# Altium integrated library TI Power Management Standard Voltage Regulator.IntLib: 214 symbols (part 1 of 7)
Pins are listed as number, name and electrical type; pins without a type are passive.

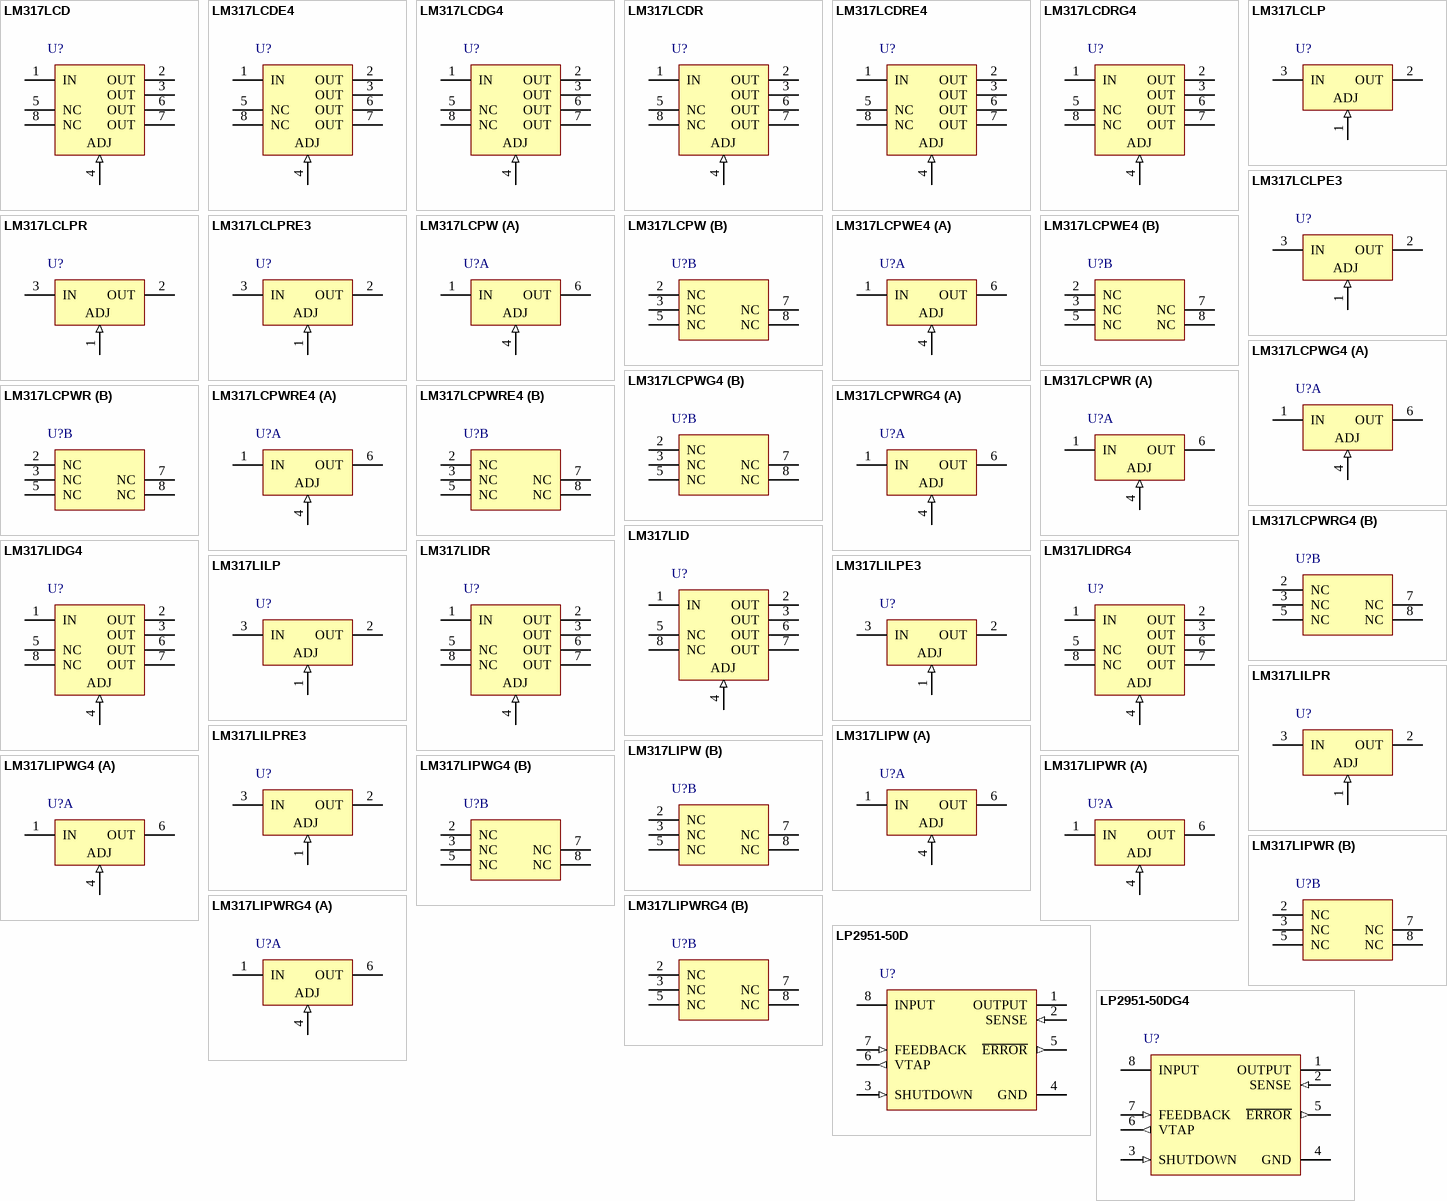
[diagram p0: symbols LM317LCD to LP2951-50DG4]

## LM317LCD
designator U?
Adjustable Regulator with 3.7 to 38 V Input and 1.2 to 32 V Output, 0 to 125 degC, 8-Pin SOIC (D), Green (RoHS & no Sb/Br); Manufacturer: Texas Instruments; PartNumber: LM317LCD; Iout(Max)(A): 0.1; Vin(Max)(V): 38; Vin(Min)(V): 3.7; Vout(Max)(V): 32; Vout(Min)(V): 1.2; DatasheetVersion: SLCS144D; PackageVersion: revM, Jun-2011; PackageReference: D8; PackageDescription: 8-Pin Plastic Small Outline Integrated Circuit, 4.9 x 3.9 mm, Pitch 1.27 mm Pitch; Supplier 1: Digi-Key; Supplier Part Number 1: 296-26092-5-ND; Supplier 2: Newark; Supplier Part Number 2: 21J8817; Supplier 3: Mouser; Supplier Part Number 3: 595-LM317LCD; Eco-Plan: Green (RoHS & no Sb/Br); Mounting Technology: Surface Mount; Code_JEDEC: MS-012AA; ComponentLink1Description: Datasheet; ComponentLink1URL: http://www.ti.com/general/docs/lit/getliterature.tsp?genericPartNumber=LM317L&fileType=pdf; ComponentLink2Description: Package Specification; ComponentLink2URL: http://www.ti.com/litv/pdf/msoi002j; ComponentLink3Description: URL Link1; ComponentLink3URL: Samples URL:http://www.ti.com/product/lm317l#samples
footprint D8_N (SOIC, 8-Leads, Body 4.9x3.9mm, Pitch 1.27mm, IPC Medium Density)
footprint D8_L (SOIC, 8-Leads, Body 4.9x3.9mm, Pitch 1.27mm, IPC High Density)
footprint D8_M (SOIC, 8-Leads, Body 4.9x3.9mm, Pitch 1.27mm, IPC Low Density)
pins: 1 IN (power), 2 OUT (power), 3 OUT (power), 4 ADJ (in), 5 NC, 6 OUT (power), 7 OUT (power), 8 NC

## LM317LCDE4
designator U?
Adjustable Regulator with 3.7 to 38 V Input and 1.2 to 32 V Output, 0 to 125 degC, 8-Pin SOIC (D), Green (RoHS & no Sb/Br); Manufacturer: Texas Instruments; PartNumber: LM317LCDE4; Iout(Max)(A): 0.1; Vin(Max)(V): 38; Vin(Min)(V): 3.7; Vout(Max)(V): 32; Vout(Min)(V): 1.2; DatasheetVersion: SLCS144D; PackageVersion: revM, Jun-2011; PackageReference: D8; PackageDescription: 8-Pin Plastic Small Outline Integrated Circuit, 4.9 x 3.9 mm, Pitch 1.27 mm Pitch; Supplier 1: Digi-Key; Supplier Part Number 1: LM317LCDE4-ND; Supplier 2: Newark; Supplier Part Number 2: 37K0304; Supplier 3: Mouser; Supplier Part Number 3: 595-LM317LCDE4; Eco-Plan: Green (RoHS & no Sb/Br); Mounting Technology: Surface Mount; Code_JEDEC: MS-012AA; ComponentLink1Description: Datasheet; ComponentLink1URL: http://www.ti.com/general/docs/lit/getliterature.tsp?genericPartNumber=LM317L&fileType=pdf; ComponentLink2Description: Package Specification; ComponentLink2URL: http://www.ti.com/litv/pdf/msoi002j; ComponentLink3Description: URL Link1; ComponentLink3URL: Samples URL:http://www.ti.com/product/lm317l#samples
footprint D8_N (SOIC, 8-Leads, Body 4.9x3.9mm, Pitch 1.27mm, IPC Medium Density)
footprint D8_L (SOIC, 8-Leads, Body 4.9x3.9mm, Pitch 1.27mm, IPC High Density)
footprint D8_M (SOIC, 8-Leads, Body 4.9x3.9mm, Pitch 1.27mm, IPC Low Density)
pins: 1 IN (power), 2 OUT (power), 3 OUT (power), 4 ADJ (in), 5 NC, 6 OUT (power), 7 OUT (power), 8 NC

## LM317LCDG4
designator U?
Adjustable Regulator with 3.7 to 38 V Input and 1.2 to 32 V Output, 0 to 125 degC, 8-Pin SOIC (D), Green (RoHS & no Sb/Br); Manufacturer: Texas Instruments; PartNumber: LM317LCDG4; Iout(Max)(A): 0.1; Vin(Max)(V): 38; Vin(Min)(V): 3.7; Vout(Max)(V): 32; Vout(Min)(V): 1.2; DatasheetVersion: SLCS144D; PackageVersion: revM, Jun-2011; PackageReference: D8; PackageDescription: 8-Pin Plastic Small Outline Integrated Circuit, 4.9 x 3.9 mm, Pitch 1.27 mm Pitch; Supplier 1: Digi-Key; Supplier Part Number 1: LM317LCDG4-ND; Supplier 2: Newark; Supplier Part Number 2: 41M3407; Supplier 3: Mouser; Supplier Part Number 3: 595-LM317LCDG4; Eco-Plan: Green (RoHS & no Sb/Br); Mounting Technology: Surface Mount; Code_JEDEC: MS-012AA; ComponentLink1Description: Datasheet; ComponentLink1URL: http://www.ti.com/general/docs/lit/getliterature.tsp?genericPartNumber=LM317L&fileType=pdf; ComponentLink2Description: Package Specification; ComponentLink2URL: http://www.ti.com/litv/pdf/msoi002j; ComponentLink3Description: URL Link1; ComponentLink3URL: Samples URL:http://www.ti.com/product/lm317l#samples
footprint D8_N (SOIC, 8-Leads, Body 4.9x3.9mm, Pitch 1.27mm, IPC Medium Density)
footprint D8_L (SOIC, 8-Leads, Body 4.9x3.9mm, Pitch 1.27mm, IPC High Density)
footprint D8_M (SOIC, 8-Leads, Body 4.9x3.9mm, Pitch 1.27mm, IPC Low Density)
pins: 1 IN (power), 2 OUT (power), 3 OUT (power), 4 ADJ (in), 5 NC, 6 OUT (power), 7 OUT (power), 8 NC

## LM317LCDR
designator U?
Adjustable Regulator with 3.7 to 38 V Input and 1.2 to 32 V Output, 0 to 125 degC, 8-Pin SOIC (D), Green (RoHS & no Sb/Br); Manufacturer: Texas Instruments; PartNumber: LM317LCDR; Iout(Max)(A): 0.1; Vin(Max)(V): 38; Vin(Min)(V): 3.7; Vout(Max)(V): 32; Vout(Min)(V): 1.2; DatasheetVersion: SLCS144D; PackageVersion: revM, Jun-2011; PackageReference: D8; PackageDescription: 8-Pin Plastic Small Outline Integrated Circuit, 4.9 x 3.9 mm, Pitch 1.27 mm Pitch; Supplier 1: Digi-Key; Supplier Part Number 1: 296-17220-2-ND; Supplier 2: Digi-Key; Supplier Part Number 2: 296-17220-1-ND; Supplier 3: Digi-Key; Supplier Part Number 3: 296-17220-6-ND; Supplier 4: Newark; Supplier Part Number 4: 21J8818; Supplier 5: Mouser; Supplier Part Number 5: 595-LM317LCDR; Eco-Plan: Green (RoHS & no Sb/Br); Mounting Technology: Surface Mount; Code_JEDEC: MS-012AA; ComponentLink1Description: Datasheet; ComponentLink1URL: http://www.ti.com/general/docs/lit/getliterature.tsp?genericPartNumber=LM317L&fileType=pdf; ComponentLink2Description: Package Specification; ComponentLink2URL: http://www.ti.com/litv/pdf/msoi002j; ComponentLink3Description: URL Link1; ComponentLink3URL: Samples URL:http://www.ti.com/product/lm317l#samples
footprint D8_N (SOIC, 8-Leads, Body 4.9x3.9mm, Pitch 1.27mm, IPC Medium Density)
footprint D8_L (SOIC, 8-Leads, Body 4.9x3.9mm, Pitch 1.27mm, IPC High Density)
footprint D8_M (SOIC, 8-Leads, Body 4.9x3.9mm, Pitch 1.27mm, IPC Low Density)
pins: 1 IN (power), 2 OUT (power), 3 OUT (power), 4 ADJ (in), 5 NC, 6 OUT (power), 7 OUT (power), 8 NC

## LM317LCDRE4
designator U?
Adjustable Regulator with 3.7 to 38 V Input and 1.2 to 32 V Output, 0 to 125 degC, 8-Pin SOIC (D), Green (RoHS & no Sb/Br); Manufacturer: Texas Instruments; PartNumber: LM317LCDRE4; Iout(Max)(A): 0.1; Vin(Max)(V): 38; Vin(Min)(V): 3.7; Vout(Max)(V): 32; Vout(Min)(V): 1.2; DatasheetVersion: SLCS144D; PackageVersion: revM, Jun-2011; PackageReference: D8; PackageDescription: 8-Pin Plastic Small Outline Integrated Circuit, 4.9 x 3.9 mm, Pitch 1.27 mm Pitch; Supplier 1: Digi-Key; Supplier Part Number 1: LM317LCDRE4-ND; Supplier 2: Newark; Supplier Part Number 2: 37K0305; Supplier 3: Mouser; Supplier Part Number 3: 595-LM317LCDRE4; Eco-Plan: Green (RoHS & no Sb/Br); Mounting Technology: Surface Mount; Code_JEDEC: MS-012AA; ComponentLink1Description: Datasheet; ComponentLink1URL: http://www.ti.com/general/docs/lit/getliterature.tsp?genericPartNumber=LM317L&fileType=pdf; ComponentLink2Description: Package Specification; ComponentLink2URL: http://www.ti.com/litv/pdf/msoi002j; ComponentLink3Description: URL Link1; ComponentLink3URL: Samples URL:http://www.ti.com/product/lm317l#samples
footprint D8_N (SOIC, 8-Leads, Body 4.9x3.9mm, Pitch 1.27mm, IPC Medium Density)
footprint D8_L (SOIC, 8-Leads, Body 4.9x3.9mm, Pitch 1.27mm, IPC High Density)
footprint D8_M (SOIC, 8-Leads, Body 4.9x3.9mm, Pitch 1.27mm, IPC Low Density)
pins: 1 IN (power), 2 OUT (power), 3 OUT (power), 4 ADJ (in), 5 NC, 6 OUT (power), 7 OUT (power), 8 NC

## LM317LCDRG4
designator U?
Adjustable Regulator with 3.7 to 38 V Input and 1.2 to 32 V Output, 0 to 125 degC, 8-Pin SOIC (D), Green (RoHS & no Sb/Br); Manufacturer: Texas Instruments; PartNumber: LM317LCDRG4; Iout(Max)(A): 0.1; Vin(Max)(V): 38; Vin(Min)(V): 3.7; Vout(Max)(V): 32; Vout(Min)(V): 1.2; DatasheetVersion: SLCS144D; PackageVersion: revM, Jun-2011; PackageReference: D8; PackageDescription: 8-Pin Plastic Small Outline Integrated Circuit, 4.9 x 3.9 mm, Pitch 1.27 mm Pitch; Supplier 1: Digi-Key; Supplier Part Number 1: LM317LCDRG4-ND; Supplier 2: Newark; Supplier Part Number 2: 41M3408; Supplier 3: Mouser; Supplier Part Number 3: 595-LM317LCDRG4; Eco-Plan: Green (RoHS & no Sb/Br); Mounting Technology: Surface Mount; Code_JEDEC: MS-012AA; ComponentLink1Description: Datasheet; ComponentLink1URL: http://www.ti.com/general/docs/lit/getliterature.tsp?genericPartNumber=LM317L&fileType=pdf; ComponentLink2Description: Package Specification; ComponentLink2URL: http://www.ti.com/litv/pdf/msoi002j; ComponentLink3Description: URL Link1; ComponentLink3URL: Samples URL:http://www.ti.com/product/lm317l#samples
footprint D8_N (SOIC, 8-Leads, Body 4.9x3.9mm, Pitch 1.27mm, IPC Medium Density)
footprint D8_L (SOIC, 8-Leads, Body 4.9x3.9mm, Pitch 1.27mm, IPC High Density)
footprint D8_M (SOIC, 8-Leads, Body 4.9x3.9mm, Pitch 1.27mm, IPC Low Density)
pins: 1 IN (power), 2 OUT (power), 3 OUT (power), 4 ADJ (in), 5 NC, 6 OUT (power), 7 OUT (power), 8 NC

## LM317LCLP
designator U?
Adjustable Regulator with 3.7 to 38 V Input and 1.2 to 32 V Output, 0 to 125 degC, 3-Pin TO-92 (LP), Pb-Free (RoHS); Manufacturer: Texas Instruments; PartNumber: LM317LCLP; Iout(Max)(A): 0.1; Vin(Max)(V): 38; Vin(Min)(V): 3.7; Vout(Max)(V): 32; Vout(Min)(V): 1.2; DatasheetVersion: SLCS144D; PackageVersion: revC, Oct-2001; PackageReference: LP3; PackageDescription: Plastic Cylindrical Package, Formed Lead Option (TO-92); Supplier 1: Digi-Key; Supplier Part Number 1: 296-33312-5-ND; Supplier 2: Newark; Supplier Part Number 2: 21J8819; Supplier 3: Mouser; Supplier Part Number 3: 595-LM317LCLP; Eco-Plan: Pb-Free (RoHS); Mounting Technology: Through Hole; Code_JEDEC: TO-226-AA; ComponentLink1Description: Datasheet; ComponentLink1URL: http://www.ti.com/general/docs/lit/getliterature.tsp?genericPartNumber=LM317L&fileType=pdf; ComponentLink2Description: Package Specification; ComponentLink2URL: http://www.ti.com/litv/pdf/msot002a; ComponentLink3Description: URL Link1; ComponentLink3URL: Samples URL:http://www.ti.com/product/lm317l#samples
footprint LP3 (TO, Flat Index; 3 In-Line, Formed Axial Leads; Body Dia. 4.8mm; Leads 0.56 x 0.41 mm (max))
pins: 1 ADJ (in), 2 OUT (power), 3 IN (power)

## LM317LCLPE3
designator U?
Adjustable Regulator with 3.7 to 38 V Input and 1.2 to 32 V Output, 0 to 125 degC, 3-Pin TO-92 (LP), Pb-Free (RoHS); Manufacturer: Texas Instruments; PartNumber: LM317LCLPE3; Iout(Max)(A): 0.1; Vin(Max)(V): 38; Vin(Min)(V): 3.7; Vout(Max)(V): 32; Vout(Min)(V): 1.2; DatasheetVersion: SLCS144D; PackageVersion: revC, Oct-2001; PackageReference: LP3; PackageDescription: Plastic Cylindrical Package, Formed Lead Option (TO-92); Supplier 1: Digi-Key; Supplier Part Number 1: LM317LCLPE3-ND; Supplier 2: Mouser; Supplier Part Number 2: 595-LM317LCLPE3; Eco-Plan: Pb-Free (RoHS); Mounting Technology: Through Hole; Code_JEDEC: TO-226-AA; ComponentLink1Description: Datasheet; ComponentLink1URL: http://www.ti.com/general/docs/lit/getliterature.tsp?genericPartNumber=LM317L&fileType=pdf; ComponentLink2Description: Package Specification; ComponentLink2URL: http://www.ti.com/litv/pdf/msot002a; ComponentLink3Description: URL Link1; ComponentLink3URL: Samples URL:http://www.ti.com/product/lm317l#samples
footprint LP3 (TO, Flat Index; 3 In-Line, Formed Axial Leads; Body Dia. 4.8mm; Leads 0.56 x 0.41 mm (max))
pins: 1 ADJ (in), 2 OUT (power), 3 IN (power)

## LM317LCLPR
designator U?
Adjustable Regulator with 3.7 to 38 V Input and 1.2 to 32 V Output, 0 to 125 degC, 3-Pin TO-92 (LP), Pb-Free (RoHS); Manufacturer: Texas Instruments; PartNumber: LM317LCLPR; Iout(Max)(A): 0.1; Vin(Max)(V): 38; Vin(Min)(V): 3.7; Vout(Max)(V): 32; Vout(Min)(V): 1.2; DatasheetVersion: SLCS144D; PackageVersion: revC, Oct-2001; PackageReference: LP3; PackageDescription: Plastic Cylindrical Package, Formed Lead Option (TO-92); Supplier 1: Digi-Key; Supplier Part Number 1: 296-17221-2-ND; Supplier 2: Digi-Key; Supplier Part Number 2: 296-17221-1-ND; Supplier 3: Digi-Key; Supplier Part Number 3: 296-17221-6-ND; Supplier 4: Newark; Supplier Part Number 4: 21J8820; Supplier 5: Mouser; Supplier Part Number 5: 595-LM317LCLPR; Eco-Plan: Pb-Free (RoHS); Mounting Technology: Through Hole; Code_JEDEC: TO-226-AA; ComponentLink1Description: Datasheet; ComponentLink1URL: http://www.ti.com/general/docs/lit/getliterature.tsp?genericPartNumber=LM317L&fileType=pdf; ComponentLink2Description: Package Specification; ComponentLink2URL: http://www.ti.com/litv/pdf/msot002a; ComponentLink3Description: URL Link1; ComponentLink3URL: Samples URL:http://www.ti.com/product/lm317l#samples
footprint LP3 (TO, Flat Index; 3 In-Line, Formed Axial Leads; Body Dia. 4.8mm; Leads 0.56 x 0.41 mm (max))
pins: 1 ADJ (in), 2 OUT (power), 3 IN (power)

## LM317LCLPRE3
designator U?
Adjustable Regulator with 3.7 to 38 V Input and 1.2 to 32 V Output, 0 to 125 degC, 3-Pin TO-92 (LP), Pb-Free (RoHS); Manufacturer: Texas Instruments; PartNumber: LM317LCLPRE3; Iout(Max)(A): 0.1; SubFamily: Single Channel LDO; Vin(Max)(V): 38; Vin(Min)(V): 3.7; Vout(Max)(V): 32; Vout(Min)(V): 1.2; DatasheetVersion: SLCS144D; PackageVersion: revC, Oct-2001; PackageReference: LP3; PackageDescription: Plastic Cylindrical Package, Formed Lead Option (TO-92); Supplier 1: Digi-Key; Supplier Part Number 1: LM317LCLPRE3-ND; Supplier 2: Mouser; Supplier Part Number 2: 595-LM317LCLPRE3; Eco-Plan: Pb-Free (RoHS); Mounting Technology: Through Hole; Code_JEDEC: TO-226-AA; ComponentLink1Description: Datasheet; ComponentLink1URL: http://www.ti.com/general/docs/lit/getliterature.tsp?genericPartNumber=LM317L&fileType=pdf; ComponentLink2Description: Package Specification; ComponentLink2URL: http://www.ti.com/litv/pdf/msot002a; ComponentLink3Description: URL Link1; ComponentLink3URL: Samples URL:http://www.ti.com/product/lm317l#samples
footprint LP3 (TO, Flat Index; 3 In-Line, Formed Axial Leads; Body Dia. 4.8mm; Leads 0.56 x 0.41 mm (max))
pins: 1 ADJ (in), 2 OUT (power), 3 IN (power)

## LM317LCPW
designator U?
Adjustable Regulator with 3.7 to 38 V Input and 1.2 to 32 V Output, 0 to 125 degC, 8-Pin TSSOP (PW), Green (RoHS & no Sb/Br); Manufacturer: Texas Instruments; PartNumber: LM317LCPW; Iout(Max)(A): 0.1; Vin(Max)(V): 38; Vin(Min)(V): 3.7; Vout(Max)(V): 32; Vout(Min)(V): 1.2; DatasheetVersion: SLCS144D; PackageVersion: revG, Feb-2011; PackageReference: PW8; PackageDescription: 8-Pin Plastic Thin Small Outline Package 3 x 4.4 mm Body ,0.65 mm Pitch; Supplier 1: Digi-Key; Supplier Part Number 1: 296-33313-5-ND; Supplier 2: Newark; Supplier Part Number 2: 21J8821; Supplier 3: Mouser; Supplier Part Number 3: 595-LM317LCPW; Eco-Plan: Green (RoHS & no Sb/Br); Mounting Technology: Surface Mount; Code_JEDEC: MO-153; ComponentLink1Description: Datasheet; ComponentLink1URL: http://www.ti.com/general/docs/lit/getliterature.tsp?genericPartNumber=LM317L&fileType=pdf; ComponentLink2Description: Package Specification; ComponentLink2URL: http://www.ti.com/litv/pdf/mtss001d; ComponentLink3Description: URL Link1; ComponentLink3URL: Samples URL:http://www.ti.com/product/lm317l#samples
footprint PW8_N (TSOP, 8-Leads, Body 3x4.4mm, Pitch 0.65mm, IPC Medium Density)
footprint PW8_L (TSOP, 8-Leads, Body 3x4.4mm, Pitch 0.65mm, IPC High Density)
footprint PW8_M (TSOP, 8-Leads, Body 3x4.4mm, Pitch 0.65mm, IPC Low Density)
part A pins: 1 IN (power), 4 ADJ (in), 6 OUT (power)
part B pins: 2 NC, 3 NC, 5 NC, 7 NC, 8 NC

## LM317LCPWE4
designator U?
Adjustable Regulator with 3.7 to 38 V Input and 1.2 to 32 V Output, 0 to 125 degC, 8-Pin TSSOP (PW), Green (RoHS & no Sb/Br); Manufacturer: Texas Instruments; PartNumber: LM317LCPWE4; Iout(Max)(A): 0.1; Vin(Max)(V): 38; Vin(Min)(V): 3.7; Vout(Max)(V): 32; Vout(Min)(V): 1.2; DatasheetVersion: SLCS144D; PackageVersion: revG, Feb-2011; PackageReference: PW8; PackageDescription: 8-Pin Plastic Thin Small Outline Package 3 x 4.4 mm Body ,0.65 mm Pitch; Supplier 1: Digi-Key; Supplier Part Number 1: LM317LCPWE4-ND; Supplier 2: Newark; Supplier Part Number 2: 33K5250; Supplier 3: Mouser; Supplier Part Number 3: 595-LM317LCPWE4; Eco-Plan: Green (RoHS & no Sb/Br); Mounting Technology: Surface Mount; Code_JEDEC: MO-153; ComponentLink1Description: Datasheet; ComponentLink1URL: http://www.ti.com/general/docs/lit/getliterature.tsp?genericPartNumber=LM317L&fileType=pdf; ComponentLink2Description: Package Specification; ComponentLink2URL: http://www.ti.com/litv/pdf/mtss001d; ComponentLink3Description: URL Link1; ComponentLink3URL: Samples URL:http://www.ti.com/product/lm317l#samples
footprint PW8_N (TSOP, 8-Leads, Body 3x4.4mm, Pitch 0.65mm, IPC Medium Density)
footprint PW8_L (TSOP, 8-Leads, Body 3x4.4mm, Pitch 0.65mm, IPC High Density)
footprint PW8_M (TSOP, 8-Leads, Body 3x4.4mm, Pitch 0.65mm, IPC Low Density)
part A pins: 1 IN (power), 4 ADJ (in), 6 OUT (power)
part B pins: 2 NC, 3 NC, 5 NC, 7 NC, 8 NC

## LM317LCPWG4
designator U?
Adjustable Regulator with 3.7 to 38 V Input and 1.2 to 32 V Output, 0 to 125 degC, 8-Pin TSSOP (PW), Green (RoHS & no Sb/Br); Manufacturer: Texas Instruments; PartNumber: LM317LCPWG4; Iout(Max)(A): 0.1; Vin(Max)(V): 38; Vin(Min)(V): 3.7; Vout(Max)(V): 32; Vout(Min)(V): 1.2; DatasheetVersion: SLCS144D; PackageVersion: revG, Feb-2011; PackageReference: PW8; PackageDescription: 8-Pin Plastic Thin Small Outline Package 3 x 4.4 mm Body ,0.65 mm Pitch; Supplier 1: Digi-Key; Supplier Part Number 1: LM317LCPWG4-ND; Supplier 2: Newark; Supplier Part Number 2: 46M6563; Supplier 3: Mouser; Supplier Part Number 3: 595-LM317LCPWG4; Eco-Plan: Green (RoHS & no Sb/Br); Mounting Technology: Surface Mount; Code_JEDEC: MO-153; ComponentLink1Description: Datasheet; ComponentLink1URL: http://www.ti.com/general/docs/lit/getliterature.tsp?genericPartNumber=LM317L&fileType=pdf; ComponentLink2Description: Package Specification; ComponentLink2URL: http://www.ti.com/litv/pdf/mtss001d; ComponentLink3Description: URL Link1; ComponentLink3URL: Samples URL:http://www.ti.com/product/lm317l#samples
footprint PW8_N (TSOP, 8-Leads, Body 3x4.4mm, Pitch 0.65mm, IPC Medium Density)
footprint PW8_L (TSOP, 8-Leads, Body 3x4.4mm, Pitch 0.65mm, IPC High Density)
footprint PW8_M (TSOP, 8-Leads, Body 3x4.4mm, Pitch 0.65mm, IPC Low Density)
part A pins: 1 IN (power), 4 ADJ (in), 6 OUT (power)
part B pins: 2 NC, 3 NC, 5 NC, 7 NC, 8 NC

## LM317LCPWR
designator U?
Adjustable Regulator with 3.7 to 38 V Input and 1.2 to 32 V Output, 0 to 125 degC, 8-Pin TSSOP (PW), Green (RoHS & no Sb/Br); Manufacturer: Texas Instruments; PartNumber: LM317LCPWR; Iout(Max)(A): 0.1; Vin(Max)(V): 38; Vin(Min)(V): 3.7; Vout(Max)(V): 32; Vout(Min)(V): 1.2; DatasheetVersion: SLCS144D; PackageVersion: revG, Feb-2011; PackageReference: PW8; PackageDescription: 8-Pin Plastic Thin Small Outline Package 3 x 4.4 mm Body ,0.65 mm Pitch; Supplier 1: Digi-Key; Supplier Part Number 1: 296-17222-2-ND; Supplier 2: Digi-Key; Supplier Part Number 2: 296-17222-1-ND; Supplier 3: Digi-Key; Supplier Part Number 3: 296-17222-6-ND; Supplier 4: Newark; Supplier Part Number 4: 21J8822; Supplier 5: Mouser; Supplier Part Number 5: 595-LM317LCPWR; Eco-Plan: Green (RoHS & no Sb/Br); Mounting Technology: Surface Mount; Code_JEDEC: MO-153; ComponentLink1Description: Datasheet; ComponentLink1URL: http://www.ti.com/general/docs/lit/getliterature.tsp?genericPartNumber=LM317L&fileType=pdf; ComponentLink2Description: Package Specification; ComponentLink2URL: http://www.ti.com/litv/pdf/mtss001d; ComponentLink3Description: URL Link1; ComponentLink3URL: Samples URL:http://www.ti.com/product/lm317l#samples
footprint PW8_N (TSOP, 8-Leads, Body 3x4.4mm, Pitch 0.65mm, IPC Medium Density)
footprint PW8_L (TSOP, 8-Leads, Body 3x4.4mm, Pitch 0.65mm, IPC High Density)
footprint PW8_M (TSOP, 8-Leads, Body 3x4.4mm, Pitch 0.65mm, IPC Low Density)
part A pins: 1 IN (power), 4 ADJ (in), 6 OUT (power)
part B pins: 2 NC, 3 NC, 5 NC, 7 NC, 8 NC

## LM317LCPWRE4
designator U?
Adjustable Regulator with 3.7 to 38 V Input and 1.2 to 32 V Output, 0 to 125 degC, 8-Pin TSSOP (PW), Green (RoHS & no Sb/Br); Manufacturer: Texas Instruments; PartNumber: LM317LCPWRE4; Iout(Max)(A): 0.1; Vin(Max)(V): 38; Vin(Min)(V): 3.7; Vout(Max)(V): 32; Vout(Min)(V): 1.2; DatasheetVersion: SLCS144D; PackageVersion: revG, Feb-2011; PackageReference: PW8; PackageDescription: 8-Pin Plastic Thin Small Outline Package 3 x 4.4 mm Body ,0.65 mm Pitch; Supplier 1: Digi-Key; Supplier Part Number 1: LM317LCPWRE4-ND; Supplier 2: Newark; Supplier Part Number 2: 33K5251; Supplier 3: Mouser; Supplier Part Number 3: 595-LM317LCPWRE4; Eco-Plan: Green (RoHS & no Sb/Br); Mounting Technology: Surface Mount; Code_JEDEC: MO-153; ComponentLink1Description: Datasheet; ComponentLink1URL: http://www.ti.com/general/docs/lit/getliterature.tsp?genericPartNumber=LM317L&fileType=pdf; ComponentLink2Description: Package Specification; ComponentLink2URL: http://www.ti.com/litv/pdf/mtss001d; ComponentLink3Description: URL Link1; ComponentLink3URL: Samples URL:http://www.ti.com/product/lm317l#samples
footprint PW8_N (TSOP, 8-Leads, Body 3x4.4mm, Pitch 0.65mm, IPC Medium Density)
footprint PW8_L (TSOP, 8-Leads, Body 3x4.4mm, Pitch 0.65mm, IPC High Density)
footprint PW8_M (TSOP, 8-Leads, Body 3x4.4mm, Pitch 0.65mm, IPC Low Density)
part A pins: 1 IN (power), 4 ADJ (in), 6 OUT (power)
part B pins: 2 NC, 3 NC, 5 NC, 7 NC, 8 NC

## LM317LCPWRG4
designator U?
Adjustable Regulator with 3.7 to 38 V Input and 1.2 to 32 V Output, 0 to 125 degC, 8-Pin TSSOP (PW), Green (RoHS & no Sb/Br); Manufacturer: Texas Instruments; PartNumber: LM317LCPWRG4; Iout(Max)(A): 0.1; Vin(Max)(V): 38; Vin(Min)(V): 3.7; Vout(Max)(V): 32; Vout(Min)(V): 1.2; DatasheetVersion: SLCS144D; PackageVersion: revG, Feb-2011; PackageReference: PW8; PackageDescription: 8-Pin Plastic Thin Small Outline Package 3 x 4.4 mm Body ,0.65 mm Pitch; Supplier 1: Digi-Key; Supplier Part Number 1: LM317LCPWRG4-ND; Supplier 2: Newark; Supplier Part Number 2: 46M6564; Supplier 3: Mouser; Supplier Part Number 3: 595-LM317LCPWRG4; Eco-Plan: Green (RoHS & no Sb/Br); Mounting Technology: Surface Mount; Code_JEDEC: MO-153; ComponentLink1Description: Datasheet; ComponentLink1URL: http://www.ti.com/general/docs/lit/getliterature.tsp?genericPartNumber=LM317L&fileType=pdf; ComponentLink2Description: Package Specification; ComponentLink2URL: http://www.ti.com/litv/pdf/mtss001d; ComponentLink3Description: URL Link1; ComponentLink3URL: Samples URL:http://www.ti.com/product/lm317l#samples
footprint PW8_N (TSOP, 8-Leads, Body 3x4.4mm, Pitch 0.65mm, IPC Medium Density)
footprint PW8_L (TSOP, 8-Leads, Body 3x4.4mm, Pitch 0.65mm, IPC High Density)
footprint PW8_M (TSOP, 8-Leads, Body 3x4.4mm, Pitch 0.65mm, IPC Low Density)
part A pins: 1 IN (power), 4 ADJ (in), 6 OUT (power)
part B pins: 2 NC, 3 NC, 5 NC, 7 NC, 8 NC

## LM317LID
designator U?
Adjustable Regulator with 3.7 to 38 V Input and 1.2 to 32 V Output, -40 to 125 degC, 8-Pin SOIC (D), Green (RoHS & no Sb/Br); Manufacturer: Texas Instruments; PartNumber: LM317LID; Iout(Max)(A): 0.1; Vin(Max)(V): 38; Vin(Min)(V): 3.7; Vout(Max)(V): 32; Vout(Min)(V): 1.2; DatasheetVersion: SLCS144D; PackageVersion: revM, Jun-2011; PackageReference: D8; PackageDescription: 8-Pin Plastic Small Outline Integrated Circuit, 4.9 x 3.9 mm, Pitch 1.27 mm Pitch; Supplier 1: Digi-Key; Supplier Part Number 1: 296-26094-5-ND; Supplier 2: Farnell; Supplier Part Number 2: 2124761; Supplier 3: Newark; Supplier Part Number 3: 14M2018; Supplier 4: Mouser; Supplier Part Number 4: 595-LM317LID; Eco-Plan: Green (RoHS & no Sb/Br); Mounting Technology: Surface Mount; Code_JEDEC: MS-012AA; ComponentLink1Description: Datasheet; ComponentLink1URL: http://www.ti.com/general/docs/lit/getliterature.tsp?genericPartNumber=LM317L&fileType=pdf; ComponentLink2Description: Package Specification; ComponentLink2URL: http://www.ti.com/litv/pdf/msoi002j; ComponentLink3Description: URL Link1; ComponentLink3URL: Samples URL:http://www.ti.com/product/lm317l#samples
footprint D8_N (SOIC, 8-Leads, Body 4.9x3.9mm, Pitch 1.27mm, IPC Medium Density)
footprint D8_L (SOIC, 8-Leads, Body 4.9x3.9mm, Pitch 1.27mm, IPC High Density)
footprint D8_M (SOIC, 8-Leads, Body 4.9x3.9mm, Pitch 1.27mm, IPC Low Density)
pins: 1 IN (power), 2 OUT (power), 3 OUT (power), 4 ADJ (in), 5 NC, 6 OUT (power), 7 OUT (power), 8 NC

## LM317LIDG4
designator U?
Adjustable Regulator with 3.7 to 38 V Input and 1.2 to 32 V Output, -40 to 125 degC, 8-Pin SOIC (D), Green (RoHS & no Sb/Br); Manufacturer: Texas Instruments; PartNumber: LM317LIDG4; Iout(Max)(A): 0.1; Vin(Max)(V): 38; Vin(Min)(V): 3.7; Vout(Max)(V): 32; Vout(Min)(V): 1.2; DatasheetVersion: SLCS144D; PackageVersion: revM, Jun-2011; PackageReference: D8; PackageDescription: 8-Pin Plastic Small Outline Integrated Circuit, 4.9 x 3.9 mm, Pitch 1.27 mm Pitch; Supplier 1: Digi-Key; Supplier Part Number 1: LM317LIDG4-ND; Supplier 2: Newark; Supplier Part Number 2: 14M2019; Supplier 3: Mouser; Supplier Part Number 3: 595-LM317LIDG4; Eco-Plan: Green (RoHS & no Sb/Br); Mounting Technology: Surface Mount; Code_JEDEC: MS-012AA; ComponentLink1Description: Datasheet; ComponentLink1URL: http://www.ti.com/general/docs/lit/getliterature.tsp?genericPartNumber=LM317L&fileType=pdf; ComponentLink2Description: Package Specification; ComponentLink2URL: http://www.ti.com/litv/pdf/msoi002j; ComponentLink3Description: URL Link1; ComponentLink3URL: Samples URL:http://www.ti.com/product/lm317l#samples
footprint D8_N (SOIC, 8-Leads, Body 4.9x3.9mm, Pitch 1.27mm, IPC Medium Density)
footprint D8_L (SOIC, 8-Leads, Body 4.9x3.9mm, Pitch 1.27mm, IPC High Density)
footprint D8_M (SOIC, 8-Leads, Body 4.9x3.9mm, Pitch 1.27mm, IPC Low Density)
pins: 1 IN (power), 2 OUT (power), 3 OUT (power), 4 ADJ (in), 5 NC, 6 OUT (power), 7 OUT (power), 8 NC

## LM317LIDR
designator U?
Adjustable Regulator with 3.7 to 38 V Input and 1.2 to 32 V Output, -40 to 125 degC, 8-Pin SOIC (D), Green (RoHS & no Sb/Br); Manufacturer: Texas Instruments; PartNumber: LM317LIDR; Iout(Max)(A): 0.1; Vin(Max)(V): 38; Vin(Min)(V): 3.7; Vout(Max)(V): 32; Vout(Min)(V): 1.2; DatasheetVersion: SLCS144D; PackageVersion: revM, Jun-2011; PackageReference: D8; PackageDescription: 8-Pin Plastic Small Outline Integrated Circuit, 4.9 x 3.9 mm, Pitch 1.27 mm Pitch; Supplier 1: Digi-Key; Supplier Part Number 1: 296-20678-2-ND; Supplier 2: Digi-Key; Supplier Part Number 2: 296-20678-1-ND; Supplier 3: Digi-Key; Supplier Part Number 3: 296-20678-6-ND; Supplier 4: Mouser; Supplier Part Number 4: 595-LM317LIDR; Eco-Plan: Green (RoHS & no Sb/Br); Mounting Technology: Surface Mount; Code_JEDEC: MS-012AA; ComponentLink1Description: Datasheet; ComponentLink1URL: http://www.ti.com/general/docs/lit/getliterature.tsp?genericPartNumber=LM317L&fileType=pdf; ComponentLink2Description: Package Specification; ComponentLink2URL: http://www.ti.com/litv/pdf/msoi002j; ComponentLink3Description: URL Link1; ComponentLink3URL: Samples URL:http://www.ti.com/product/lm317l#samples
footprint D8_N (SOIC, 8-Leads, Body 4.9x3.9mm, Pitch 1.27mm, IPC Medium Density)
footprint D8_L (SOIC, 8-Leads, Body 4.9x3.9mm, Pitch 1.27mm, IPC High Density)
footprint D8_M (SOIC, 8-Leads, Body 4.9x3.9mm, Pitch 1.27mm, IPC Low Density)
pins: 1 IN (power), 2 OUT (power), 3 OUT (power), 4 ADJ (in), 5 NC, 6 OUT (power), 7 OUT (power), 8 NC

## LM317LIDRG4
designator U?
Adjustable Regulator with 3.7 to 38 V Input and 1.2 to 32 V Output, -40 to 125 degC, 8-Pin SOIC (D), Green (RoHS & no Sb/Br); Manufacturer: Texas Instruments; PartNumber: LM317LIDRG4; Iout(Max)(A): 0.1; Vin(Max)(V): 38; Vin(Min)(V): 3.7; Vout(Max)(V): 32; Vout(Min)(V): 1.2; DatasheetVersion: SLCS144D; PackageVersion: revM, Jun-2011; PackageReference: D8; PackageDescription: 8-Pin Plastic Small Outline Integrated Circuit, 4.9 x 3.9 mm, Pitch 1.27 mm Pitch; Supplier 1: Digi-Key; Supplier Part Number 1: LM317LIDRG4-ND; Supplier 2: Newark; Supplier Part Number 2: 14M2021; Supplier 3: Mouser; Supplier Part Number 3: 595-LM317LIDRG4; Eco-Plan: Green (RoHS & no Sb/Br); Mounting Technology: Surface Mount; Code_JEDEC: MS-012AA; ComponentLink1Description: Datasheet; ComponentLink1URL: http://www.ti.com/general/docs/lit/getliterature.tsp?genericPartNumber=LM317L&fileType=pdf; ComponentLink2Description: Package Specification; ComponentLink2URL: http://www.ti.com/litv/pdf/msoi002j; ComponentLink3Description: URL Link1; ComponentLink3URL: Samples URL:http://www.ti.com/product/lm317l#samples
footprint D8_N (SOIC, 8-Leads, Body 4.9x3.9mm, Pitch 1.27mm, IPC Medium Density)
footprint D8_L (SOIC, 8-Leads, Body 4.9x3.9mm, Pitch 1.27mm, IPC High Density)
footprint D8_M (SOIC, 8-Leads, Body 4.9x3.9mm, Pitch 1.27mm, IPC Low Density)
pins: 1 IN (power), 2 OUT (power), 3 OUT (power), 4 ADJ (in), 5 NC, 6 OUT (power), 7 OUT (power), 8 NC

## LM317LILP
designator U?
Adjustable Regulator with 3.7 to 38 V Input and 1.2 to 32 V Output, -40 to 125 degC, 3-Pin TO-92 (LP), Pb-Free (RoHS); Manufacturer: Texas Instruments; PartNumber: LM317LILP; Iout(Max)(A): 0.1; Vin(Max)(V): 38; Vin(Min)(V): 3.7; Vout(Max)(V): 32; Vout(Min)(V): 1.2; DatasheetVersion: SLCS144D; PackageVersion: revC, Oct-2001; PackageReference: LP3; PackageDescription: Plastic Cylindrical Package, Formed Lead Option (TO-92); Supplier 1: Digi-Key; Supplier Part Number 1: 296-31364-ND; Supplier 2: Farnell; Supplier Part Number 2: 2144325; Supplier 3: Newark; Supplier Part Number 3: 14M2022; Supplier 4: Mouser; Supplier Part Number 4: 595-LM317LILP; Eco-Plan: Pb-Free (RoHS); Mounting Technology: Through Hole; Code_JEDEC: TO-226-AA; ComponentLink1Description: Datasheet; ComponentLink1URL: http://www.ti.com/general/docs/lit/getliterature.tsp?genericPartNumber=LM317L&fileType=pdf; ComponentLink2Description: Package Specification; ComponentLink2URL: http://www.ti.com/litv/pdf/msot002a; ComponentLink3Description: URL Link1; ComponentLink3URL: Samples URL:http://www.ti.com/product/lm317l#samples
footprint LP3 (TO, Flat Index; 3 In-Line, Formed Axial Leads; Body Dia. 4.8mm; Leads 0.56 x 0.41 mm (max))
pins: 1 ADJ (in), 2 OUT (power), 3 IN (power)

## LM317LILPE3
designator U?
Adjustable Regulator with 3.7 to 38 V Input and 1.2 to 32 V Output, -40 to 125 degC, 3-Pin TO-92 (LP), Pb-Free (RoHS); Manufacturer: Texas Instruments; PartNumber: LM317LILPE3; Iout(Max)(A): 0.1; Vin(Max)(V): 38; Vin(Min)(V): 3.7; Vout(Max)(V): 32; Vout(Min)(V): 1.2; DatasheetVersion: SLCS144D; PackageVersion: revC, Oct-2001; PackageReference: LP3; PackageDescription: Plastic Cylindrical Package, Formed Lead Option (TO-92); Supplier 1: Digi-Key; Supplier Part Number 1: LM317LILPE3-ND; Supplier 2: Mouser; Supplier Part Number 2: 595-LM317LILPE3; Eco-Plan: Pb-Free (RoHS); Mounting Technology: Through Hole; Code_JEDEC: TO-226-AA; ComponentLink1Description: Datasheet; ComponentLink1URL: http://www.ti.com/general/docs/lit/getliterature.tsp?genericPartNumber=LM317L&fileType=pdf; ComponentLink2Description: Package Specification; ComponentLink2URL: http://www.ti.com/litv/pdf/msot002a; ComponentLink3Description: URL Link1; ComponentLink3URL: Samples URL:http://www.ti.com/product/lm317l#samples
footprint LP3 (TO, Flat Index; 3 In-Line, Formed Axial Leads; Body Dia. 4.8mm; Leads 0.56 x 0.41 mm (max))
pins: 1 ADJ (in), 2 OUT (power), 3 IN (power)

## LM317LILPR
designator U?
Adjustable Regulator with 3.7 to 38 V Input and 1.2 to 32 V Output, -40 to 125 degC, 3-Pin TO-92 (LP), Pb-Free (RoHS); Manufacturer: Texas Instruments; PartNumber: LM317LILPR; Iout(Max)(A): 0.1; Vin(Max)(V): 38; Vin(Min)(V): 3.7; Vout(Max)(V): 32; Vout(Min)(V): 1.2; DatasheetVersion: SLCS144D; PackageVersion: revC, Oct-2001; PackageReference: LP3; PackageDescription: Plastic Cylindrical Package, Formed Lead Option (TO-92); Supplier 1: Digi-Key; Supplier Part Number 1: 296-20679-2-ND; Supplier 2: Digi-Key; Supplier Part Number 2: 296-20679-1-ND; Supplier 3: Digi-Key; Supplier Part Number 3: 296-20679-6-ND; Supplier 4: Newark; Supplier Part Number 4: 14M2023; Supplier 5: Mouser; Supplier Part Number 5: 595-LM317LILPR; Eco-Plan: Pb-Free (RoHS); Mounting Technology: Through Hole; Code_JEDEC: TO-226-AA; ComponentLink1Description: Datasheet; ComponentLink1URL: http://www.ti.com/general/docs/lit/getliterature.tsp?genericPartNumber=LM317L&fileType=pdf; ComponentLink2Description: Package Specification; ComponentLink2URL: http://www.ti.com/litv/pdf/msot002a; ComponentLink3Description: URL Link1; ComponentLink3URL: Samples URL:http://www.ti.com/product/lm317l#samples
footprint LP3 (TO, Flat Index; 3 In-Line, Formed Axial Leads; Body Dia. 4.8mm; Leads 0.56 x 0.41 mm (max))
pins: 1 ADJ (in), 2 OUT (power), 3 IN (power)

## LM317LILPRE3
designator U?
Adjustable Regulator with 3.7 to 38 V Input and 1.2 to 32 V Output, -40 to 125 degC, 3-Pin TO-92 (LP), Pb-Free (RoHS); Manufacturer: Texas Instruments; PartNumber: LM317LILPRE3; Iout(Max)(A): 0.1; Vin(Max)(V): 38; Vin(Min)(V): 3.7; Vout(Max)(V): 32; Vout(Min)(V): 1.2; DatasheetVersion: SLCS144D; PackageVersion: revC, Oct-2001; PackageReference: LP3; PackageDescription: Plastic Cylindrical Package, Formed Lead Option (TO-92); Supplier 1: Digi-Key; Supplier Part Number 1: LM317LILPRE3-ND; Supplier 2: Mouser; Supplier Part Number 2: 595-LM317LILPRE3; Eco-Plan: Pb-Free (RoHS); Mounting Technology: Through Hole; Code_JEDEC: TO-226-AA; ComponentLink1Description: Datasheet; ComponentLink1URL: http://www.ti.com/general/docs/lit/getliterature.tsp?genericPartNumber=LM317L&fileType=pdf; ComponentLink2Description: Package Specification; ComponentLink2URL: http://www.ti.com/litv/pdf/msot002a; ComponentLink3Description: URL Link1; ComponentLink3URL: Samples URL:http://www.ti.com/product/lm317l#samples
footprint LP3 (TO, Flat Index; 3 In-Line, Formed Axial Leads; Body Dia. 4.8mm; Leads 0.56 x 0.41 mm (max))
pins: 1 ADJ (in), 2 OUT (power), 3 IN (power)

## LM317LIPW
designator U?
Adjustable Regulator with 3.7 to 38 V Input and 1.2 to 32 V Output, -40 to 125 degC, 8-Pin TSSOP (PW), Green (RoHS & no Sb/Br); Manufacturer: Texas Instruments; PartNumber: LM317LIPW; Iout(Max)(A): 0.1; Vin(Max)(V): 38; Vin(Min)(V): 3.7; Vout(Max)(V): 32; Vout(Min)(V): 1.2; DatasheetVersion: SLCS144D; PackageVersion: revG, Feb-2011; PackageReference: PW8; PackageDescription: 8-Pin Plastic Thin Small Outline Package 3 x 4.4 mm Body ,0.65 mm Pitch; Supplier 1: Digi-Key; Supplier Part Number 1: LM317LIPW-ND; Supplier 2: Newark; Supplier Part Number 2: 14M2024; Supplier 3: Mouser; Supplier Part Number 3: 595-LM317LIPW; Eco-Plan: Green (RoHS & no Sb/Br); Mounting Technology: Surface Mount; Code_JEDEC: MO-153; ComponentLink1Description: Datasheet; ComponentLink1URL: http://www.ti.com/general/docs/lit/getliterature.tsp?genericPartNumber=LM317L&fileType=pdf; ComponentLink2Description: Package Specification; ComponentLink2URL: http://www.ti.com/litv/pdf/mtss001d; ComponentLink3Description: URL Link1; ComponentLink3URL: Samples URL:http://www.ti.com/product/lm317l#samples
footprint PW8_N (TSOP, 8-Leads, Body 3x4.4mm, Pitch 0.65mm, IPC Medium Density)
footprint PW8_L (TSOP, 8-Leads, Body 3x4.4mm, Pitch 0.65mm, IPC High Density)
footprint PW8_M (TSOP, 8-Leads, Body 3x4.4mm, Pitch 0.65mm, IPC Low Density)
part A pins: 1 IN (power), 4 ADJ (in), 6 OUT (power)
part B pins: 2 NC, 3 NC, 5 NC, 7 NC, 8 NC

## LM317LIPWG4
designator U?
Adjustable Regulator with 3.7 to 38 V Input and 1.2 to 32 V Output, -40 to 125 degC, 8-Pin TSSOP (PW), Green (RoHS & no Sb/Br); Manufacturer: Texas Instruments; PartNumber: LM317LIPWG4; Iout(Max)(A): 0.1; Vin(Max)(V): 38; Vin(Min)(V): 3.7; Vout(Max)(V): 32; Vout(Min)(V): 1.2; DatasheetVersion: SLCS144D; PackageVersion: revG, Feb-2011; PackageReference: PW8; PackageDescription: 8-Pin Plastic Thin Small Outline Package 3 x 4.4 mm Body ,0.65 mm Pitch; Supplier 1: Digi-Key; Supplier Part Number 1: LM317LIPWG4-ND; Supplier 2: Newark; Supplier Part Number 2: 14M2025; Supplier 3: Mouser; Supplier Part Number 3: 595-LM317LIPWG4; Eco-Plan: Green (RoHS & no Sb/Br); Mounting Technology: Surface Mount; Code_JEDEC: MO-153; ComponentLink1Description: Datasheet; ComponentLink1URL: http://www.ti.com/general/docs/lit/getliterature.tsp?genericPartNumber=LM317L&fileType=pdf; ComponentLink2Description: Package Specification; ComponentLink2URL: http://www.ti.com/litv/pdf/mtss001d; ComponentLink3Description: URL Link1; ComponentLink3URL: Samples URL:http://www.ti.com/product/lm317l#samples
footprint PW8_N (TSOP, 8-Leads, Body 3x4.4mm, Pitch 0.65mm, IPC Medium Density)
footprint PW8_L (TSOP, 8-Leads, Body 3x4.4mm, Pitch 0.65mm, IPC High Density)
footprint PW8_M (TSOP, 8-Leads, Body 3x4.4mm, Pitch 0.65mm, IPC Low Density)
part A pins: 1 IN (power), 4 ADJ (in), 6 OUT (power)
part B pins: 2 NC, 3 NC, 5 NC, 7 NC, 8 NC

## LM317LIPWR
designator U?
Adjustable Regulator with 3.7 to 38 V Input and 1.2 to 32 V Output, -40 to 125 degC, 8-Pin TSSOP (PW), Green (RoHS & no Sb/Br); Manufacturer: Texas Instruments; PartNumber: LM317LIPWR; Iout(Max)(A): 0.1; Vin(Max)(V): 38; Vin(Min)(V): 3.7; Vout(Max)(V): 32; Vout(Min)(V): 1.2; DatasheetVersion: SLCS144D; PackageVersion: revG, Feb-2011; PackageReference: PW8; PackageDescription: 8-Pin Plastic Thin Small Outline Package 3 x 4.4 mm Body ,0.65 mm Pitch; Supplier 1: Digi-Key; Supplier Part Number 1: 296-20680-2-ND; Supplier 2: Digi-Key; Supplier Part Number 2: 296-20680-1-ND; Supplier 3: Digi-Key; Supplier Part Number 3: 296-20680-6-ND; Supplier 4: Newark; Supplier Part Number 4: 14M2026; Supplier 5: Mouser; Supplier Part Number 5: 595-LM317LIPWR; Eco-Plan: Green (RoHS & no Sb/Br); Mounting Technology: Surface Mount; Code_JEDEC: MO-153; ComponentLink1Description: Datasheet; ComponentLink1URL: http://www.ti.com/general/docs/lit/getliterature.tsp?genericPartNumber=LM317L&fileType=pdf; ComponentLink2Description: Package Specification; ComponentLink2URL: http://www.ti.com/litv/pdf/mtss001d; ComponentLink3Description: URL Link1; ComponentLink3URL: Samples URL:http://www.ti.com/product/lm317l#samples
footprint PW8_N (TSOP, 8-Leads, Body 3x4.4mm, Pitch 0.65mm, IPC Medium Density)
footprint PW8_L (TSOP, 8-Leads, Body 3x4.4mm, Pitch 0.65mm, IPC High Density)
footprint PW8_M (TSOP, 8-Leads, Body 3x4.4mm, Pitch 0.65mm, IPC Low Density)
part A pins: 1 IN (power), 4 ADJ (in), 6 OUT (power)
part B pins: 2 NC, 3 NC, 5 NC, 7 NC, 8 NC

## LM317LIPWRG4
designator U?
Adjustable Regulator with 3.7 to 38 V Input and 1.2 to 32 V Output, -40 to 125 degC, 8-Pin TSSOP (PW), Green (RoHS & no Sb/Br); Manufacturer: Texas Instruments; PartNumber: LM317LIPWRG4; Iout(Max)(A): 0.1; Vin(Max)(V): 38; Vin(Min)(V): 3.7; Vout(Max)(V): 32; Vout(Min)(V): 1.2; DatasheetVersion: SLCS144D; PackageVersion: revG, Feb-2011; PackageReference: PW8; PackageDescription: 8-Pin Plastic Thin Small Outline Package 3 x 4.4 mm Body ,0.65 mm Pitch; Supplier 1: Digi-Key; Supplier Part Number 1: LM317LIPWRG4-ND; Supplier 2: Newark; Supplier Part Number 2: 14M2027; Supplier 3: Mouser; Supplier Part Number 3: 595-LM317LIPWRG4; Eco-Plan: Green (RoHS & no Sb/Br); Mounting Technology: Surface Mount; Code_JEDEC: MO-153; ComponentLink1Description: Datasheet; ComponentLink1URL: http://www.ti.com/general/docs/lit/getliterature.tsp?genericPartNumber=LM317L&fileType=pdf; ComponentLink2Description: Package Specification; ComponentLink2URL: http://www.ti.com/litv/pdf/mtss001d; ComponentLink3Description: URL Link1; ComponentLink3URL: Samples URL:http://www.ti.com/product/lm317l#samples
footprint PW8_N (TSOP, 8-Leads, Body 3x4.4mm, Pitch 0.65mm, IPC Medium Density)
footprint PW8_L (TSOP, 8-Leads, Body 3x4.4mm, Pitch 0.65mm, IPC High Density)
footprint PW8_M (TSOP, 8-Leads, Body 3x4.4mm, Pitch 0.65mm, IPC Low Density)
part A pins: 1 IN (power), 4 ADJ (in), 6 OUT (power)
part B pins: 2 NC, 3 NC, 5 NC, 7 NC, 8 NC

## LP2951-50D
designator U?
Fixed Regulator with 1 to 30 V Input and 1.2 to 30 V Output, -40 to 125 degC, 8-Pin SOIC (D), Green (RoHS & no Sb/Br); Manufacturer: Texas Instruments; PartNumber: LP2951-50D; Iout(Max)(A): 0.1; Iq(Typ)(mA): 0.075; Vin(Max)(V): 30; Vin(Min)(V): 1; Vout(Min)(V): 1.2; DatasheetVersion: SLVS582H; PackageVersion: revM, Jun-2011; PackageReference: D8; PackageDescription: 8-Pin Plastic Small Outline Integrated Circuit, 4.9 x 3.9 mm, Pitch 1.27 mm Pitch; Supplier 1: Digi-Key; Supplier Part Number 1: 296-26123-5-ND; Supplier 2: Farnell; Supplier Part Number 2: 1755065; Supplier 3: Newark; Supplier Part Number 3: 18M2444; Supplier 4: Mouser; Supplier Part Number 4: 595-LP2951-50D; Eco-Plan: Green (RoHS & no Sb/Br); Vout(Max)(V): 30; Mounting Technology: Surface Mount; Code_JEDEC: MS-012AA; ComponentLink1Description: Datasheet; ComponentLink1URL: http://www.ti.com/general/docs/lit/getliterature.tsp?genericPartNumber=LP2951-50&fileType=pdf; ComponentLink2Description: Package Specification; ComponentLink2URL: http://www.ti.com/litv/pdf/msoi002j; ComponentLink3Description: URL Link1; ComponentLink3URL: Samples URL:http://www.ti.com/product/lp2951-50#samples
footprint D8_N (SOIC, 8-Leads, Body 4.9x3.9mm, Pitch 1.27mm, IPC Medium Density)
footprint D8_L (SOIC, 8-Leads, Body 4.9x3.9mm, Pitch 1.27mm, IPC High Density)
footprint D8_M (SOIC, 8-Leads, Body 4.9x3.9mm, Pitch 1.27mm, IPC Low Density)
pins: 1 OUTPUT (power), 2 SENSE (in), 3 SHUTDOWN (in), 4 GND (power), 5 ~{ERROR} (out), 6 VTAP (out), 7 FEEDBACK (in), 8 INPUT (power)

## LP2951-50DG4
designator U?
Fixed Regulator with 1 to 30 V Input and 1.2 to 30 V Output, -40 to 125 degC, 8-Pin SOIC (D), Green (RoHS & no Sb/Br); Manufacturer: Texas Instruments; PartNumber: LP2951-50DG4; Iout(Max)(A): 0.1; Iq(Typ)(mA): 0.075; Vin(Max)(V): 30; Vin(Min)(V): 1; Vout(Min)(V): 1.2; DatasheetVersion: SLVS582H; PackageVersion: revM, Jun-2011; PackageReference: D8; PackageDescription: 8-Pin Plastic Small Outline Integrated Circuit, 4.9 x 3.9 mm, Pitch 1.27 mm Pitch; Supplier 1: Digi-Key; Supplier Part Number 1: LP2951-50DG4-ND; Supplier 2: Newark; Supplier Part Number 2: 18M2445; Supplier 3: Mouser; Supplier Part Number 3: 595-LP2951-50DG4; Eco-Plan: Green (RoHS & no Sb/Br); Vout(Max)(V): 30; Mounting Technology: Surface Mount; Code_JEDEC: MS-012AA; ComponentLink1Description: Datasheet; ComponentLink1URL: http://www.ti.com/general/docs/lit/getliterature.tsp?genericPartNumber=LP2951-50&fileType=pdf; ComponentLink2Description: Package Specification; ComponentLink2URL: http://www.ti.com/litv/pdf/msoi002j; ComponentLink3Description: URL Link1; ComponentLink3URL: Samples URL:http://www.ti.com/product/lp2951-50#samples
footprint D8_N (SOIC, 8-Leads, Body 4.9x3.9mm, Pitch 1.27mm, IPC Medium Density)
footprint D8_L (SOIC, 8-Leads, Body 4.9x3.9mm, Pitch 1.27mm, IPC High Density)
footprint D8_M (SOIC, 8-Leads, Body 4.9x3.9mm, Pitch 1.27mm, IPC Low Density)
pins: 1 OUTPUT (power), 2 SENSE (in), 3 SHUTDOWN (in), 4 GND (power), 5 ~{ERROR} (out), 6 VTAP (out), 7 FEEDBACK (in), 8 INPUT (power)

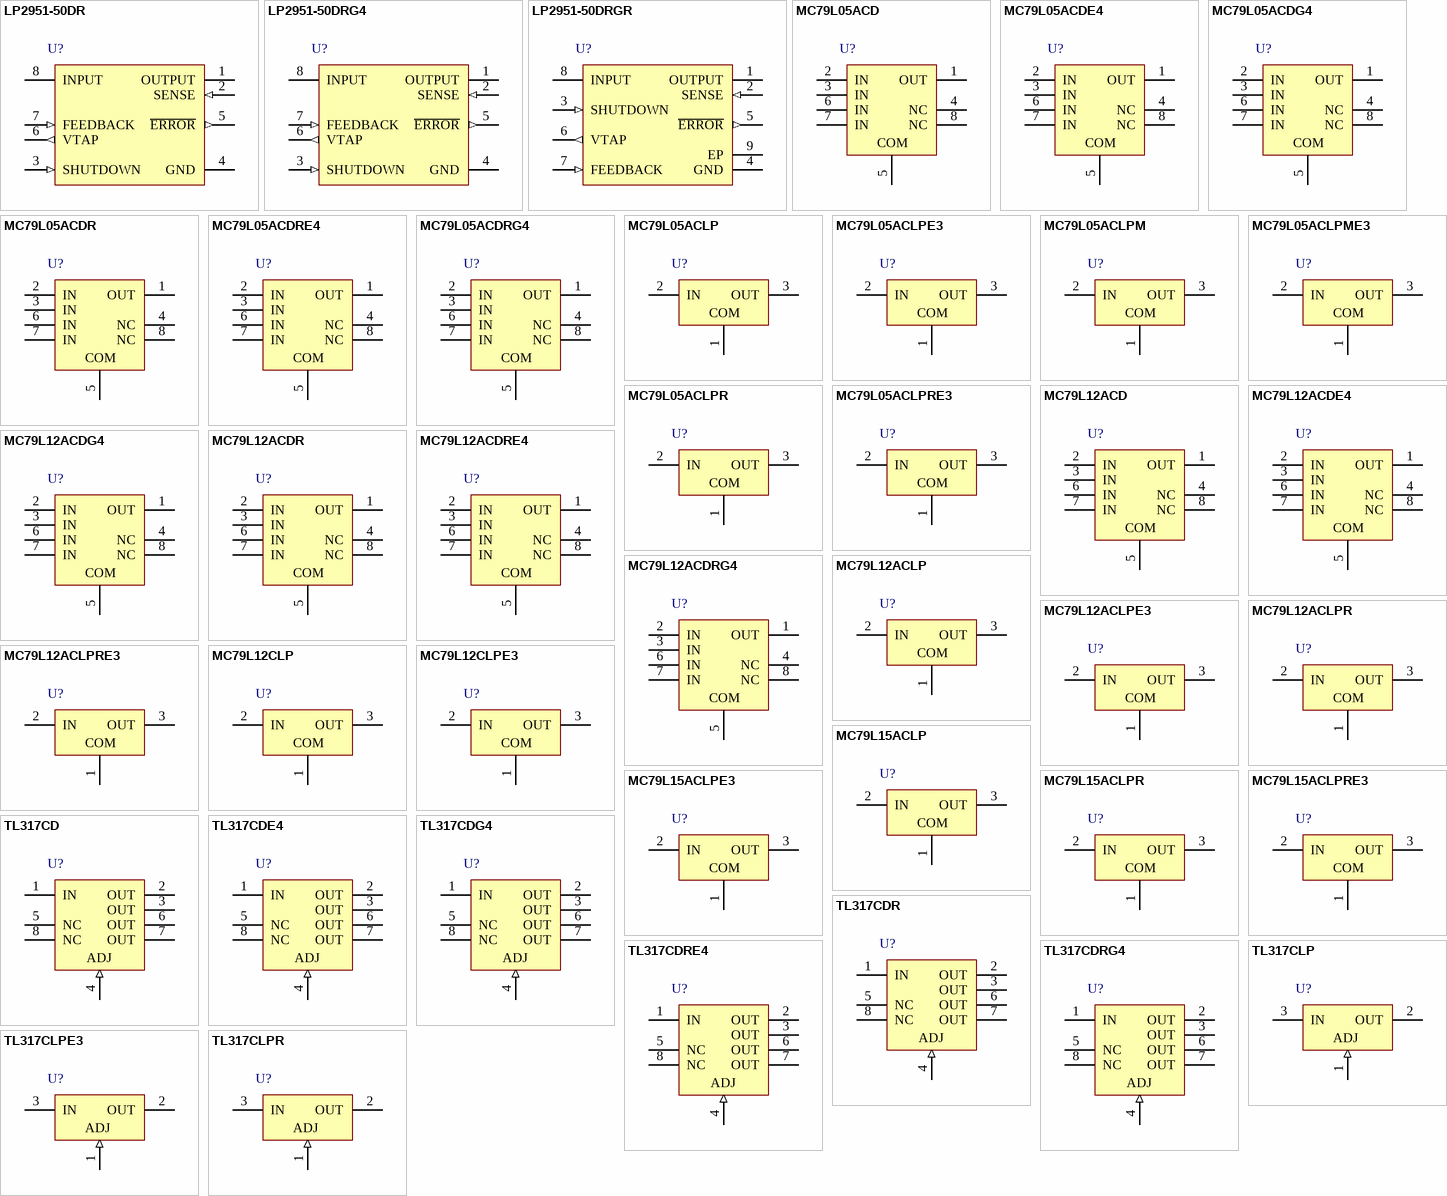
[diagram p1: symbols LP2951-50DR to TL317CLPR]

## LP2951-50DR
designator U?
Fixed Regulator with 1 to 30 V Input and 1.2 to 30 V Output, -40 to 125 degC, 8-Pin SOIC (D), Green (RoHS & no Sb/Br); Manufacturer: Texas Instruments; PartNumber: LP2951-50DR; Iout(Max)(A): 0.1; Iq(Typ)(mA): 0.075; Vin(Max)(V): 30; Vin(Min)(V): 1; Vout(Min)(V): 1.2; DatasheetVersion: SLVS582H; PackageVersion: revM, Jun-2011; PackageReference: D8; PackageDescription: 8-Pin Plastic Small Outline Integrated Circuit, 4.9 x 3.9 mm, Pitch 1.27 mm Pitch; Supplier 1: Digi-Key; Supplier Part Number 1: 296-31677-2-ND; Supplier 2: Digi-Key; Supplier Part Number 2: 296-31677-1-ND; Supplier 3: Digi-Key; Supplier Part Number 3: 296-31677-6-ND; Supplier 4: Newark; Supplier Part Number 4: 18M2446; Supplier 5: Mouser; Supplier Part Number 5: 595-LP2951-50DR; Eco-Plan: Green (RoHS & no Sb/Br); Vout(Max)(V): 30; Mounting Technology: Surface Mount; Code_JEDEC: MS-012AA; ComponentLink1Description: Datasheet; ComponentLink1URL: http://www.ti.com/general/docs/lit/getliterature.tsp?genericPartNumber=LP2951-50&fileType=pdf; ComponentLink2Description: Package Specification; ComponentLink2URL: http://www.ti.com/litv/pdf/msoi002j; ComponentLink3Description: URL Link1; ComponentLink3URL: Samples URL:http://www.ti.com/product/lp2951-50#samples
footprint D8_N (SOIC, 8-Leads, Body 4.9x3.9mm, Pitch 1.27mm, IPC Medium Density)
footprint D8_L (SOIC, 8-Leads, Body 4.9x3.9mm, Pitch 1.27mm, IPC High Density)
footprint D8_M (SOIC, 8-Leads, Body 4.9x3.9mm, Pitch 1.27mm, IPC Low Density)
pins: 1 OUTPUT (power), 2 SENSE (in), 3 SHUTDOWN (in), 4 GND (power), 5 ~{ERROR} (out), 6 VTAP (out), 7 FEEDBACK (in), 8 INPUT (power)

## LP2951-50DRG4
designator U?
Fixed Regulator with 1 to 30 V Input and 1.2 to 30 V Output, -40 to 125 degC, 8-Pin SOIC (D), Green (RoHS & no Sb/Br); Manufacturer: Texas Instruments; PartNumber: LP2951-50DRG4; Iout(Max)(A): 0.1; Iq(Typ)(mA): 0.075; Vin(Max)(V): 30; Vin(Min)(V): 1; Vout(Min)(V): 1.2; DatasheetVersion: SLVS582H; PackageVersion: revM, Jun-2011; PackageReference: D8; PackageDescription: 8-Pin Plastic Small Outline Integrated Circuit, 4.9 x 3.9 mm, Pitch 1.27 mm Pitch; Supplier 1: Digi-Key; Supplier Part Number 1: LP2951-50DRG4-ND; Supplier 2: Newark; Supplier Part Number 2: 18M2447; Supplier 3: Mouser; Supplier Part Number 3: 595-LP2951-50DRG4; Eco-Plan: Green (RoHS & no Sb/Br); Vout(Max)(V): 30; Mounting Technology: Surface Mount; Code_JEDEC: MS-012AA; ComponentLink1Description: Datasheet; ComponentLink1URL: http://www.ti.com/general/docs/lit/getliterature.tsp?genericPartNumber=LP2951-50&fileType=pdf; ComponentLink2Description: Package Specification; ComponentLink2URL: http://www.ti.com/litv/pdf/msoi002j; ComponentLink3Description: URL Link1; ComponentLink3URL: Samples URL:http://www.ti.com/product/lp2951-50#samples
footprint D8_N (SOIC, 8-Leads, Body 4.9x3.9mm, Pitch 1.27mm, IPC Medium Density)
footprint D8_L (SOIC, 8-Leads, Body 4.9x3.9mm, Pitch 1.27mm, IPC High Density)
footprint D8_M (SOIC, 8-Leads, Body 4.9x3.9mm, Pitch 1.27mm, IPC Low Density)
pins: 1 OUTPUT (power), 2 SENSE (in), 3 SHUTDOWN (in), 4 GND (power), 5 ~{ERROR} (out), 6 VTAP (out), 7 FEEDBACK (in), 8 INPUT (power)

## LP2951-50DRGR
designator U?
Fixed Regulator with 1 to 30 V Input and 1.2 to 30 V Output, -40 to 125 degC, 8-Pin SON (DRG), Green (RoHS & no Sb/Br); Manufacturer: Texas Instruments; PartNumber: LP2951-50DRGR; Iout(Max)(A): 0.1; Iq(Typ)(mA): 0.075; Vin(Max)(V): 30; Vin(Min)(V): 1; Vout(Min)(V): 1.2; DatasheetVersion: SLVS582H; PackageVersion: revC, Dec-2010; PackageReference: DRG8-2000X1200TP; PackageDescription: 8-Pin Plastic Small Outline No-Lead, 3 x 3 x 0.8 mm Body,  0.5 mm Pitch, Exposed Pad; Supplier 1: Digi-Key; Supplier Part Number 1: 296-29169-2-ND; Supplier 2: Digi-Key; Supplier Part Number 2: 296-29169-1-ND; Supplier 3: Digi-Key; Supplier Part Number 3: 296-29169-6-ND; Supplier 4: Newark; Supplier Part Number 4: 74R6457; Supplier 5: Mouser; Supplier Part Number 5: 595-LP2951-50DRGR; Eco-Plan: Green (RoHS & no Sb/Br); Vout(Max)(V): 30; Mounting Technology: Surface Mount; Code_JEDEC: MO-229; ComponentLink1Description: Datasheet; ComponentLink1URL: http://www.ti.com/general/docs/lit/getliterature.tsp?genericPartNumber=LP2951-50&fileType=pdf; ComponentLink2Description: Package Specification; ComponentLink2URL: http://www.ti.com/litv/pdf/mpds151b; ComponentLink3Description: URL Link1; ComponentLink3URL: Samples URL:http://www.ti.com/product/lp2951-50#samples
footprint DRG8-2000X1200TP (SON, 8-Leads, Body 3x3mm, Pitch 0.5mm, Thermal Pad 2x1.2mm, TI Recommended)
pins: 1 OUTPUT (power), 2 SENSE (in), 3 SHUTDOWN (in), 4 GND (power), 5 ~{ERROR} (out), 6 VTAP (out), 7 FEEDBACK (in), 8 INPUT (power), 9 EP

## MC79L05ACD
designator U?
Fixed Regulator with -7 to -20 V Input and -5 V Output, 0 to 125 degC, 8-Pin SOIC (D), Green (RoHS & no Sb/Br); Manufacturer: Texas Instruments; PartNumber: MC79L05ACD; Iout(Max)(A): 0.1; Iq(Typ)(mA): 6; Vdo(Typ)(V): 1.7; DatasheetVersion: SLVS011D; PackageVersion: revM, Jun-2011; PackageReference: D8; PackageDescription: 8-Pin Plastic Small Outline Integrated Circuit, 4.9 x 3.9 mm, Pitch 1.27 mm Pitch; Supplier 1: Digi-Key; Supplier Part Number 1: 296-26170-5-ND; Supplier 2: Farnell; Supplier Part Number 2: 1387314; Supplier 3: Newark; Supplier Part Number 3: 35K3211; Supplier 4: Mouser; Supplier Part Number 4: 595-MC79L05ACD; Eco-Plan: Green (RoHS & no Sb/Br); Vin(Max)(V): -20; Vin(Min)(V): -7; Vout(Max)(V): -5; Vout(Min)(V): -5; Mounting Technology: Surface Mount; Code_JEDEC: MS-012AA; ComponentLink1Description: Datasheet; ComponentLink1URL: http://www.ti.com/general/docs/lit/getliterature.tsp?genericPartNumber=MC79L05A&fileType=pdf; ComponentLink2Description: Package Specification; ComponentLink2URL: http://www.ti.com/litv/pdf/msoi002j; ComponentLink3Description: URL Link1; ComponentLink3URL: Samples URL:http://www.ti.com/product/mc79l05a#samples
footprint D8_N (SOIC, 8-Leads, Body 4.9x3.9mm, Pitch 1.27mm, IPC Medium Density)
footprint D8_L (SOIC, 8-Leads, Body 4.9x3.9mm, Pitch 1.27mm, IPC High Density)
footprint D8_M (SOIC, 8-Leads, Body 4.9x3.9mm, Pitch 1.27mm, IPC Low Density)
pins: 1 OUT (power), 2 IN (power), 3 IN (power), 4 NC, 5 COM (power), 6 IN (power), 7 IN (power), 8 NC